# EAGLE library part L298N-CONN (library home-mind)
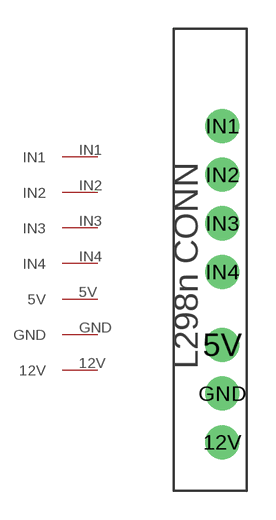
[diagram p4: symbol with the pads of L298N-CONN; footprint L298N-CONN]

Designator prefix -

## L298N-CONN  [L298N-CONN]
5V  5V
12V  12V
GND  GND
IN1  IN1
IN2  IN2
IN3  IN3
IN4  IN4

## Footprint L298N-CONN (pad centres in mm)
drill 0.9 pad 1.778: 5V 0,-11.43; 12V 0,-16.51; GND 0,-13.97; IN1 0,0; IN2 0,-2.54; IN3 0,-5.08; IN4 0,-7.62